# Altium schematic symbol library Switch_0603.SchLib: 1 symbol
Pins are listed as number, name and electrical type; pins without a type are passive.

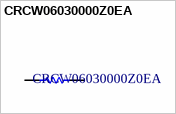
[diagram p0: symbol CRCW06030000Z0EA]

## CRCW06030000Z0EA
designator ?
0Ω 1%; ComponentLink1Description: Datasheet; PartNumber: CRCW06030000Z0EA; ComponentLink1URL: http://www.vishay.com/docs/20035/dcrcwe3.pdf; PackageReference: 0603
footprint RESC1609X50X30LL10T20
pins: 1, 2